# EAGLE library part RT8288AZSP (library SW_BuckBoost)
Buck Switching Regulator IC Positive Adjustable 0.808V 1 Output 4A 8-SOIC (0.154", 3.90mm Width) Exposed Pad
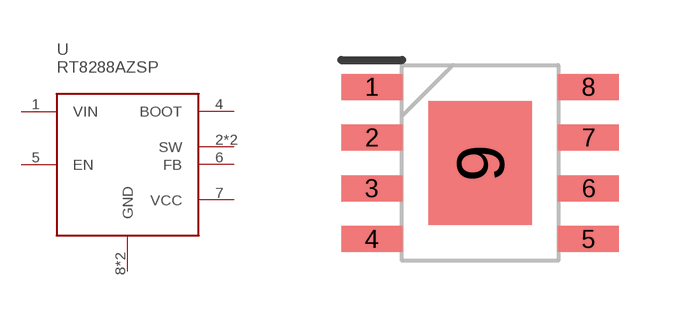
[diagram p2: symbol with the pads of SOIC-8-EP; footprint SOIC-8-EP]

Designator prefix U

## RT8288AZSP (CATEGORY: Power; DESCRIPTION: IC REG BUCK ADJUSTABLE 4A 8SOP; MFGS: Richtek USA Inc.; MPNS: RT8288AZSP; PACKAGE: SOIC-8-EP; PART_NUMBER: RT8288A; SW_PART_NUMBER: SW0000836)  [SOIC-8-EP]
1  VIN
2  SW
3  SW
4  BOOT
5  EN
6  FB
7  VCC
8  GND
9  GND

## Footprint SOIC-8-EP (pad centres in mm)
LMR33630ADDAR
smd 1.525 x 0.65: 1 -2.712,1.905; 2 -2.712,0.635; 3 -2.712,-0.635; 4 -2.712,-1.905; 5 2.712,-1.905; 6 2.712,-0.635; 7 2.712,0.635; 8 2.712,1.905
smd 2.6 x 3.1: 9 0,0